# EAGLE library part PT2399 (library ElectricNoodleBox)
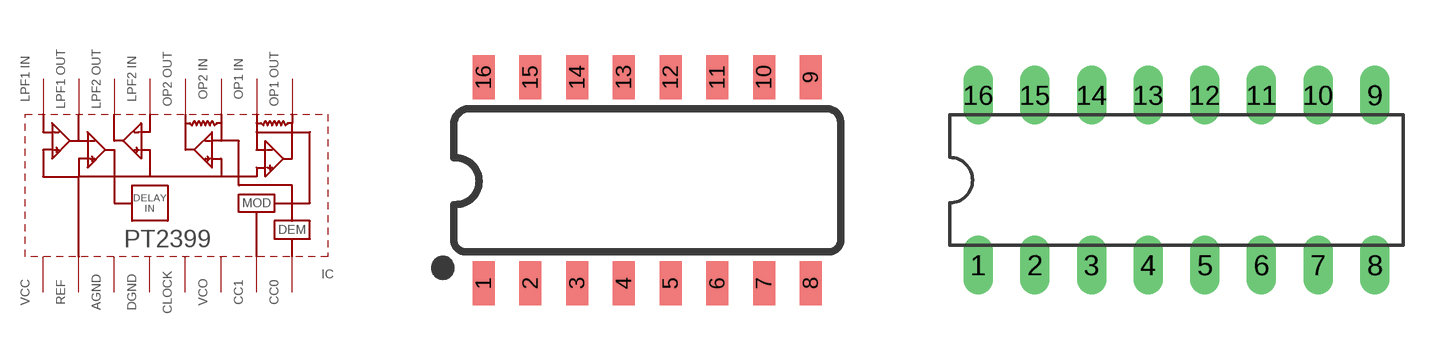
[diagram p1: symbol with the pads of SO16; footprints SO16, DIL16]

Designator prefix IC

## PT2399SO16  [SO16]
1  VCC  sup
2  REF  pwr
3  AGND  sup
4  DGND  sup
5  CLOCK  out
6  VCO  in
7  CC1  in
8  CC0  in
9  OP1_OUT  out
10  OP1_IN  in
11  OP2_IN  in
12  OP2_OUT  out
13  LPF2_IN  in
14  LPF2_OUT  out
15  LPF1_OUT  out
16  LPF1_IN  in

## PT2399DIL16  [DIL16]
Pads as for SO16

## Footprint SO16 (pad centres in mm)
SOIC-16 Specifications: Pin count: 16 Width:0.15" Example device(s): HEX_CONVERTER
smd 0.6 x 1.2: 1 -4.445,-2.8; 2 -3.175,-2.8; 3 -1.905,-2.8; 4 -0.635,-2.8; 5 0.635,-2.8; 6 1.905,-2.8; 7 3.175,-2.8; 8 4.445,-2.8; 9 4.445,2.8; 10 3.175,2.8; 11 1.905,2.8; 12 0.635,2.8; 13 -0.635,2.8; 14 -1.905,2.8; 15 -3.175,2.8; 16 -4.445,2.8

## Footprint DIL16 (pad centres in mm)
Dual In Line Package
drill 0.813 long: 1 -8.89,-3.81; 2 -6.35,-3.81; 3 -3.81,-3.81; 4 -1.27,-3.81; 5 1.27,-3.81; 6 3.81,-3.81; 7 6.35,-3.81; 8 8.89,-3.81; 9 8.89,3.81; 10 6.35,3.81; 11 3.81,3.81; 12 1.27,3.81; 13 -1.27,3.81; 14 -3.81,3.81; 15 -6.35,3.81; 16 -8.89,3.81